# Altium footprint library Footprints.PcbLib: 2 footprints
Each footprint in its own frame and in the unit in brackets; x right, y up, seen from the top. Pads: shape width x height; smd on the part's side, far side on the other; paste and mask are expansions set on the pad; w line width, h text height; cw(c..) or ccw(c..) is an arc to the next point about the centre after c.
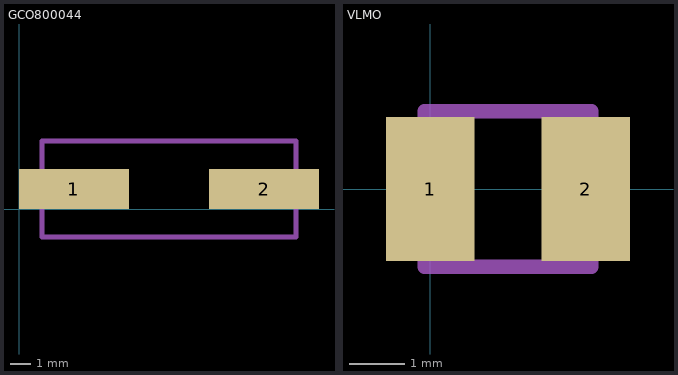
[diagram p0: the footprints below, top view; thin cyan lines are the x and y axes]

## GCO800044 [mm]
pads (2):
  rect 5.5x2 all layers, no hole: 1(2.75,1) 2(12.25,1)
Mechanical 1:
  lines w0.254: 1.15,-1.4 13.85,-1.4 13.85,3.4 1.15,3.4 1.15,-1.4

## VLMO [mm] "Vishay - VLMO31K1L2-GS08"
pads (2):
  rect 1.6x2.6 all layers, no hole: 1(0,0) 2(2.8,0)
Mechanical 1:
  lines w0.254: -0.1,-1.4 -0.1,1.4 2.9,1.4 2.9,-1.4 -0.1,-1.4